# EAGLE library part CPL-CON-JST-2.0MM-8P-SMT-VRT (library TinWhiskers)
Connector: 2.0MM Pitch, 2-Pin; Package: SMT, Vertical; Datasheet: http://www.jst-mfg.com/product/pdf/eng/ePH.pdf
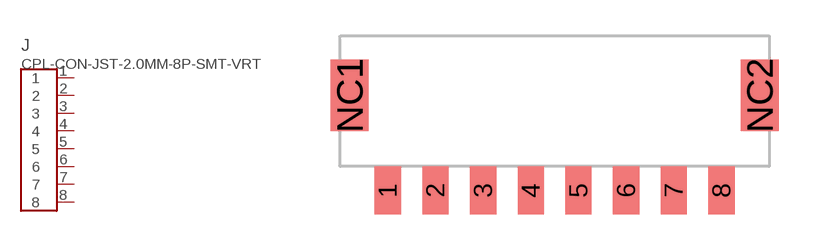
[diagram p46: symbol with the pads of CON-JST-PH-2.0MM-8P-SMT-VRT; footprint CON-JST-PH-2.0MM-8P-SMT-VRT]

Designator prefix J

## CPL-CON-JST-2.0MM-8P-SMT-VRT  [CON-JST-PH-2.0MM-8P-SMT-VRT]
1  1  pas
2  2  pas
3  3  pas
4  4  pas
5  5  pas
6  6  pas
7  7  pas
8  8  pas

## Footprint CON-JST-PH-2.0MM-8P-SMT-VRT (pad centres in mm)
Connector: 2.0MM Pitch, 8-Pin, (JST: B8B-PH-SM4-TB(LF)(SN)); Package: SMT, Vertical; Datasheet: http://www.jst-mfg.com/product/pdf/eng/ePH.pdf
smd 1.1 x 2: 1 -7,0; 2 -5,0; 3 -3,0; 4 -1,0; 5 1,0; 6 3,0; 7 5,0; 8 7,0
smd 1.6 x 3: NC1 -8.6,4; NC2 8.6,4